# EAGLE library part BTS723GW (library mosfet-infineon)
BTS723GW Smart High-Side Power Switch, Two Channels: 2x100mOhm, Status Feedback, Suitable for 42V SOIC127P600X175-14N-8
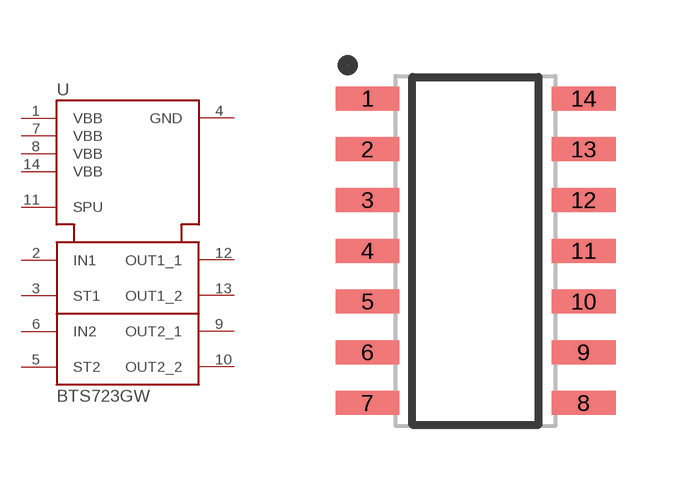
[diagram p10: symbol with the pads of SOIC127P600X175-14N-8; footprint SOIC127P600X175-14N-8]

Designator prefix U

## BTS723GW  [SOIC127P600X175-14N-8]
1  VBB  pwr
2  IN1  in
3  ST1  oc
4  GND  pwr
5  ST2  oc
6  IN2  in
7  VBB  pwr
8  VBB  pwr
9  OUT2_1  out
10  OUT2_2  out
11  SPU  pwr
12  OUT1_1  out
13  OUT1_2  out
14  VBB  pwr

## Footprint SOIC127P600X175-14N-8 (pad centres in mm)
Original name SOIC127P600X175-14N-8 Max Component Height - 1.75mm
smd 1.6 x 0.6: 1 -2.7,3.81; 2 -2.7,2.54; 3 -2.7,1.27; 4 -2.7,0; 5 -2.7,-1.27; 6 -2.7,-2.54; 7 -2.7,-3.81; 8 2.7,-3.81; 9 2.7,-2.54; 10 2.7,-1.27; 11 2.7,0; 12 2.7,1.27; 13 2.7,2.54; 14 2.7,3.81